# Altium schematic symbol library 622 0xx 211 21.SchLib: 7 symbols
Pins are listed as number, name and electrical type; pins without a type are passive.

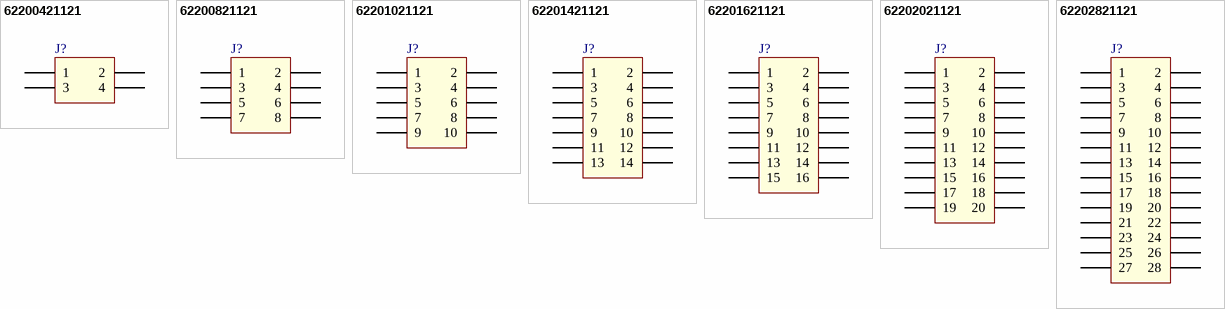
[diagram p0: symbols 62200421121 to 62202821121]

## 62200421121
designator J?
WR-PHD 1.27 mm THT Dual Pin Header, 4p; Part Number: 62200421121; Pitch: 1.27 mm; Pin Number: 4; ComponentLink1Description: Manufacturer; ComponentLink1URL: http://www.we-online.de; ComponentLink2Description: Datasheet; ComponentLink2URL: http://katalog.we-online.de/em/datasheet/6220xx21121.pdf; Published Date: April 2017; Publisher: Wurth Elektronik
footprint 62200421121 (1.27 mm THT Dual Pin Header, 4p)
pins: 1, 2, 3, 4

## 62200821121
designator J?
WR-PHD 1.27 mm THT Dual Pin Header, 8p; Part Number: 62200821121; Pitch: 1.27 mm; Pin Number: 8; ComponentLink1Description: Manufacturer; ComponentLink1URL: http://www.we-online.de; ComponentLink2Description: Datasheet; ComponentLink2URL: http://katalog.we-online.de/em/datasheet/6220xx21121.pdf; Published Date: April 2017; Publisher: Wurth Elektronik
footprint 62200821121 (1.27 mm THT Dual Pin Header, 8p)
pins: 1, 2, 3, 4, 5, 6, 7, 8

## 62201021121
designator J?
WR-PHD 1.27 mm THT Dual Pin Header, 10p; Part Number: 62201021121; Pitch: 1.27 mm; Pin Number: 10; ComponentLink1Description: Manufacturer; ComponentLink1URL: http://www.we-online.de; ComponentLink2Description: Datasheet; ComponentLink2URL: http://katalog.we-online.de/em/datasheet/6220xx21121.pdf; Published Date: April 2017; Publisher: Wurth Elektronik
footprint 62201021121 (1.27 mm THT Dual Pin Header, 10p)
pins: 1, 2, 3, 4, 5, 6, 7, 8, 9, 10

## 62201421121
designator J?
WR-PHD 1.27 mm THT Dual Pin Header, 14p; Part Number: 62201421121; Pitch: 1.27 mm; Pin Number: 14; ComponentLink1Description: Manufacturer; ComponentLink1URL: http://www.we-online.de; ComponentLink2Description: Datasheet; ComponentLink2URL: http://katalog.we-online.de/em/datasheet/6220xx21121.pdf; Published Date: April 2017; Publisher: Wurth Elektronik
footprint 62201421121 (1.27 mm THT Dual Pin Header, 14p)
pins: 1, 2, 3, 4, 5, 6, 7, 8, 9, 10, 11, 12, 13, 14

## 62201621121
designator J?
WR-PHD 1.27 mm THT Dual Pin Header, 16p; Part Number: 62201621121; Pitch: 1.27 mm; Pin Number: 16; ComponentLink1Description: Manufacturer; ComponentLink1URL: http://www.we-online.de; ComponentLink2Description: Datasheet; ComponentLink2URL: http://katalog.we-online.de/em/datasheet/6220xx21121.pdf; Published Date: April 2017; Publisher: Wurth Elektronik
footprint 62201621121 (1.27 mm THT Dual Pin Header, 16p)
pins: 1, 2, 3, 4, 5, 6, 7, 8, 9, 10, 11, 12, 13, 14, 15, 16

## 62202021121
designator J?
WR-PHD 1.27 mm THT Dual Pin Header, 20p; Part Number: 62202021121; Pitch: 1.27 mm; Pin Number: 20; ComponentLink1Description: Manufacturer; ComponentLink1URL: http://www.we-online.de; ComponentLink2Description: Datasheet; ComponentLink2URL: http://katalog.we-online.de/em/datasheet/6220xx21121.pdf; Published Date: April 2017; Publisher: Wurth Elektronik
footprint 62202021121 (1.27 mm THT Dual Pin Header, 20p)
pins: 1, 2, 3, 4, 5, 6, 7, 8, 9, 10, 11, 12, 13, 14, 15, 16, 17, 18, 19, 20

## 62202821121
designator J?
WR-PHD 1.27 mm THT Dual Pin Header, 28p; Part Number: 62202821121; Pitch: 1.27 mm; Pin Number: 28; ComponentLink1Description: Manufacturer; ComponentLink1URL: http://www.we-online.de; ComponentLink2Description: Datasheet; ComponentLink2URL: http://katalog.we-online.de/em/datasheet/6220xx21121.pdf; Published Date: April 2017; Publisher: Wurth Elektronik
footprint 62202821121 (1.27 mm THT Dual Pin Header, 28p)
pins: 1, 2, 3, 4, 5, 6, 7, 8, 9, 10, 11, 12, 13, 14, 15, 16, 17, 18, 19, 20, 21, 22, 23, 24, 25, 26, 27, 28